# Altium schematic symbol library ERJ3EKF3300V.SchLib: 1 symbol
Pins are listed as number, name and electrical type; pins without a type are passive.

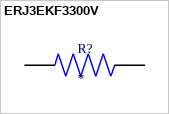
[diagram p0: symbol ERJ3EKF3300V]

## ERJ3EKF3300V
designator R?
Res Thick Film 0603 330 Ohm 1% 0.1W(1/10W) 100ppm/C Molded SMD Punched Carrier T/R; MF: Panasonic; MP: ERJ-3EKF3300V; SnapEDA_Link: https://www.snapeda.com/parts/ERJ-3EKF3300V/Panasonic+Electronic+Components/view-part/?ref=snap; Package: 1608-2 Panasonic; Value: *; Check_prices: https://www.snapeda.com/parts/ERJ-3EKF3300V/Panasonic+Electronic+Components/view-part/?ref=eda
footprint RES_ERJ3EKF3300V
pins: 1, 2